# EAGLE library part 24POS-*MM-? (library con-wurth-board-header)
Wurth Elektronik WR-BHD Male Box Headers
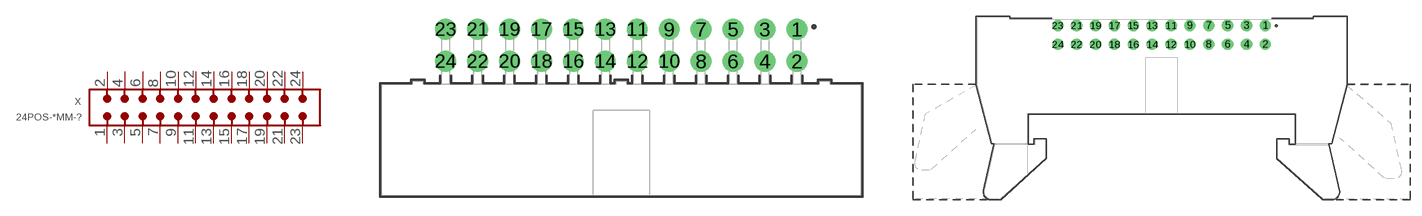
[diagram p12: symbol with the pads of 61202421721; footprints 61202421721, 61202422121]

Designator prefix X

## 24POS-2.54MM-61202421721 (CONTACT-RESISTANCE: 20mOhm; DATASHEET-URL: https://www.we-online.com/redexpert/spec/61202421721?ae; GENDER: Male; IR: 3A; LENGTH: 40.68mm; MOUNT: THT; PACKAGING: Tray; PART-NUMBER: 61202421721; PINS: 24; PITCH: 2.54 mm; TYPE: Angled; VALUE: 61202421721; WORKING-VOLTAGE: 250V(AC))  [61202421721]
1  1  pas
2  2  pas
3  3  pas
4  4  pas
5  5  pas
6  6  pas
7  7  pas
8  8  pas
9  9  pas
10  10  pas
11  11  pas
12  12  pas
13  13  pas
14  14  pas
15  15  pas
16  16  pas
17  17  pas
18  18  pas
19  19  pas
20  20  pas
21  21  pas
22  22  pas
23  23  pas
24  24  pas

## 24POS-2.54MM-61202422121 (CONTACT-RESISTANCE: 20mOhm; DATASHEET-URL: https://www.we-online.com/redexpert/spec/61202422121?ae; GENDER: Male; IR: 3A; LENGTH: 49.98mm; MOUNT: THT; PACKAGING: Tray; PART-NUMBER: 61202422121; PINS: 24; PITCH: 2.54 mm; TYPE: Angled; VALUE: 61202422121; WORKING-VOLTAGE: 250V(AC))  [61202422121]
Pads as for 61202421721

## 24POS-2.54MM-61202421621 (CONTACT-RESISTANCE: 20mOhm; DATASHEET-URL: https://www.we-online.com/redexpert/spec/61202421621?ae; GENDER: Male; IR: 3A; LENGTH: 38.14mm; MOUNT: THT; PACKAGING: Tray; PART-NUMBER: 61202421621; PINS: 24; PITCH: 2.54 mm; TYPE: Straight; VALUE: 61202421621; WORKING-VOLTAGE: 250V(AC))  [61202421621]
Pads as for 61202421721

## 24POS-2.00MM-62502421621 (CONTACT-RESISTANCE: 20mOhm; DATASHEET-URL: https://www.we-online.com/redexpert/spec/62502421621?ae; GENDER: Male; IR: 2A; LENGTH: 32.2mm; MOUNT: THT; PACKAGING: Tray; PART-NUMBER: 62502421621; PINS: 24; PITCH: 2.00 mm; TYPE: Straight; VALUE: 62502421621; WORKING-VOLTAGE: 250V(AC))  [62502421621]
Pads as for 61202421721

## 24POS-2.54MM-61202422921 (CONTACT-RESISTANCE: 20mOhm; DATASHEET-URL: https://www.we-online.com/redexpert/spec/61202422921?ae; GENDER: Male; IR: 3A; LENGTH: 49.98mm; MOUNT: THT; PACKAGING: Tray; PART-NUMBER: 61202422921; PINS: 24; PITCH: 2.54 mm; TYPE: Angled; VALUE: 61202422921; WORKING-VOLTAGE: 250V(AC))  [61202422921]
Pads as for 61202421721

## 24POS-2.54MM-61202422021 (CONTACT-RESISTANCE: 20mOhm; DATASHEET-URL: https://www.we-online.com/redexpert/spec/61202422021?ae; GENDER: Male; IR: 3A; LENGTH: 49.98mm; MOUNT: THT; PACKAGING: Tray; PART-NUMBER: 61202422021; PINS: 24; PITCH: 2.54 mm; TYPE: Straight; VALUE: 61202422021; WORKING-VOLTAGE: 250V(AC))  [61202422021]
Pads as for 61202421721

## 24POS-1.27MM-62702421721 (CONTACT-RESISTANCE: 20mOhm; DATASHEET-URL: https://www.we-online.com/redexpert/spec/62702421721?ae; GENDER: Male; IR: 1A; LENGTH: 21.59mm; MOUNT: THT; PART-NUMBER: 62702421721; PINS: 24; PITCH: 1.27 mm; TYPE: Angled; VALUE: 62702421721; WORKING-VOLTAGE: 50V(AC))  [62702421721]
Pads as for 61202421721

## 24POS-2.54MM-61202422821 (CONTACT-RESISTANCE: 20mOhm; DATASHEET-URL: https://www.we-online.com/redexpert/spec/61202422821?ae; GENDER: Male; IR: 3A; LENGTH: 49.98mm; MOUNT: THT; PACKAGING: Tray; PART-NUMBER: 61202422821; PINS: 24; PITCH: 2.54 mm; TYPE: Straight; VALUE: 61202422821; WORKING-VOLTAGE: 250V(AC))  [61202422821]
Pads as for 61202421721

## 24POS-2.54MM-61202420621 (CONTACT-RESISTANCE: 20mOhm; DATASHEET-URL: https://www.we-online.com/redexpert/spec/61202420621?ae; GENDER: Male; IR: 3A; LENGTH: 38.28mm; MOUNT: SMT; PACKAGING: Tube; PART-NUMBER: 61202420621; PINS: 24; PITCH: 2.54 mm; TYPE: Straight; VALUE: 61202420621; WORKING-VOLTAGE: 250V(AC))  [61202420621]
Pads as for 61202421721

## 24POS-1.27MM-62702421621 (CONTACT-RESISTANCE: 20mOhm; DATASHEET-URL: https://www.we-online.com/redexpert/spec/62702421621?ae; GENDER: Male; IR: 1A; LENGTH: 21.59mm; MOUNT: THT; PART-NUMBER: 62702421621; PINS: 24; PITCH: 1.27 mm; TYPE: Straight; VALUE: 62702421621; WORKING-VOLTAGE: 50V(AC))  [62702421621]
Pads as for 61202421721

## 24POS-1.27MM-62702420621 (CONTACT-RESISTANCE: 20mOhm; DATASHEET-URL: https://www.we-online.com/redexpert/spec/62702420621?ae; GENDER: Male; IR: 1A; LENGTH: 21.59mm; MOUNT: SMT; PART-NUMBER: 62702420621; PINS: 24; PITCH: 1.27 mm; TYPE: Straight; VALUE: 62702420621; WORKING-VOLTAGE: 50V(AC))  [62702420621]
Pads as for 61202421721

## 24POS-1.27MM-62732420621 (CONTACT-RESISTANCE: 20mOhm; DATASHEET-URL: https://www.we-online.com/redexpert/spec/62732420621?ae; GENDER: Male; IR: 1A; LENGTH: 21.59mm; MOUNT: SMT; PART-NUMBER: 62732420621; PINS: 24; PITCH: 1.27 mm; TYPE: Straight; VALUE: 62732420621; WORKING-VOLTAGE: 50V(AC))  [62732420621]
Pads as for 61202421721

## 24POS-2.54MM-61232420621 (CONTACT-RESISTANCE: 20mOhm; DATASHEET-URL: https://www.we-online.com/redexpert/spec/61232420621?ae; GENDER: Male; IR: 3A; LENGTH: 38.1mm; MOUNT: SMT; PACKAGING: Tape and Reel with Cap; PART-NUMBER: 61232420621; PINS: 24; PITCH: 2.54 mm; TYPE: Straight; VALUE: 612324620621; WORKING-VOLTAGE: 250V(AC))  [61232420621]
Pads as for 61202421721

## Footprint 61202421721 (pad centres in mm)
WR-BHD 2.54 mm Male Angled Box Header,24 Pins
drill 1.1: 1 13.97,8.805; 2 13.97,6.265; 3 11.43,8.805; 4 11.43,6.265; 5 8.89,8.805; 6 8.89,6.265; 7 6.35,8.805; 8 6.35,6.265; 9 3.81,8.805; 10 3.81,6.265; 11 1.27,8.805; 12 1.27,6.265; 13 -1.27,8.805; 14 -1.27,6.265; 15 -3.81,8.805; 16 -3.81,6.265; 17 -6.35,8.805; 18 -6.35,6.265; 19 -8.89,8.805; 20 -8.89,6.265; 21 -11.43,8.805; 22 -11.43,6.265; 23 -13.97,8.805; 24 -13.97,6.265

## Footprint 61202422121 (pad centres in mm)
WR-BHD 2.54 mm Male Angled Box Header with short lever,24 Pins
drill 1.02: 1 13.97,7.36; 2 13.97,4.82; 3 11.43,7.36; 4 11.43,4.82; 5 8.89,7.36; 6 8.89,4.82; 7 6.35,7.36; 8 6.35,4.82; 9 3.81,7.36; 10 3.81,4.82; 11 1.27,7.36; 12 1.27,4.82; 13 -1.27,7.36; 14 -1.27,4.82; 15 -3.81,7.36; 16 -3.81,4.82; 17 -6.35,7.36; 18 -6.35,4.82; 19 -8.89,7.36; 20 -8.89,4.82; 21 -11.43,7.36; 22 -11.43,4.82; 23 -13.97,7.36; 24 -13.97,4.82

## Footprint 61202421621 (pad centres in mm)
WR-BHD 2.54 mm Male Box Header, 24 Pins
drill 1.1: 1 -13.97,-1.27; 2 -13.97,1.27; 3 -11.43,-1.27; 4 -11.43,1.27; 5 -8.89,-1.27; 6 -8.89,1.27; 7 -6.35,-1.27; 8 -6.35,1.27; 9 -3.81,-1.27; 10 -3.81,1.27; 11 -1.27,-1.27; 12 -1.27,1.27; 13 1.27,-1.27; 14 1.27,1.27; 15 3.81,-1.27; 16 3.81,1.27; 17 6.35,-1.27; 18 6.35,1.27; 19 8.89,-1.27; 20 8.89,1.27; 21 11.43,-1.27; 22 11.43,1.27; 23 13.97,-1.27; 24 13.97,1.27

## Footprint 62502421621 (pad centres in mm)
WR-BHD 2.00 mm Male Box Headerr, 24Pins;
drill 0.8: 1 -11,-1; 2 -11,1; 3 -9,-1; 4 -9,1; 5 -7,-1; 6 -7,1; 7 -5,-1; 8 -5,1; 9 -3,-1; 10 -3,1; 11 -1,-1; 12 -1,1; 13 1,-1; 14 1,1; 15 3,-1; 16 3,1; 17 5,-1; 18 5,1; 19 7,-1; 20 7,1; 21 9,-1; 22 9,1; 23 11,-1; 24 11,1

## Footprint 61202422921 (pad centres in mm)
WR-BHD 2.54 mm Male Angled Box Header with long lever, 24 Pins
drill 1.02: 1 13.97,7.36; 2 13.97,4.82; 3 11.43,7.36; 4 11.43,4.82; 5 8.89,7.36; 6 8.89,4.82; 7 6.35,7.36; 8 6.35,4.82; 9 3.81,7.36; 10 3.81,4.82; 11 1.27,7.36; 12 1.27,4.82; 13 -1.27,7.36; 14 -1.27,4.82; 15 -3.81,7.36; 16 -3.81,4.82; 17 -6.35,7.36; 18 -6.35,4.82; 19 -8.89,7.36; 20 -8.89,4.82; 21 -11.43,7.36; 22 -11.43,4.82; 23 -13.97,7.36; 24 -13.97,4.82

## Footprint 61202422021 (pad centres in mm)
WR-BHD 2.54 mm Male Box Header with short lever, 24 Pins
drill 1.02: 1 -13.97,-1.27; 2 -13.97,1.27; 3 -11.43,-1.27; 4 -11.43,1.27; 5 -8.89,-1.27; 6 -8.89,1.27; 7 -6.35,-1.27; 8 -6.35,1.27; 9 -3.81,-1.27; 10 -3.81,1.27; 11 -1.27,-1.27; 12 -1.27,1.27; 13 1.27,-1.27; 14 1.27,1.27; 15 3.81,-1.27; 16 3.81,1.27; 17 6.35,-1.27; 18 6.35,1.27; 19 8.89,-1.27; 20 8.89,1.27; 21 11.43,-1.27; 22 11.43,1.27; 23 13.97,-1.27; 24 13.97,1.27

## Footprint 62702421721 (pad centres in mm)
WR-BHD 1,27mm Male THT Box Header Right angle, 24Pins
drill 0.7 pad 1.05: 1 6.985,4.72; 2 6.985,3.45; 3 5.715,4.72; 4 5.715,3.45; 5 4.445,4.72; 6 4.445,3.45; 7 3.175,4.72; 8 3.175,3.45; 9 1.905,4.72; 10 1.905,3.45; 11 0.635,4.72; 12 0.635,3.45; 13 -0.635,4.72; 14 -0.635,3.45; 15 -1.905,4.72; 16 -1.905,3.45; 17 -3.175,4.72; 18 -3.175,3.45; 19 -4.445,4.72; 20 -4.445,3.45; 21 -5.715,4.72; 22 -5.715,3.45; 23 -6.985,4.72; 24 -6.985,3.45

## Footprint 61202422821 (pad centres in mm)
WR-BHD 2.54 mm Male Box Header with long lever,24 Pins
drill 1.02: 1 -13.97,-1.27; 2 -13.97,1.27; 3 -11.43,-1.27; 4 -11.43,1.27; 5 -8.89,-1.27; 6 -8.89,1.27; 7 -6.35,-1.27; 8 -6.35,1.27; 9 -3.81,-1.27; 10 -3.81,1.27; 11 -1.27,-1.27; 12 -1.27,1.27; 13 1.27,-1.27; 14 1.27,1.27; 15 3.81,-1.27; 16 3.81,1.27; 17 6.35,-1.27; 18 6.35,1.27; 19 8.89,-1.27; 20 8.89,1.27; 21 11.43,-1.27; 22 11.43,1.27; 23 13.97,-1.27; 24 13.97,1.27

## Footprint 61202420621 (pad centres in mm)
WR-BHD 2.54 mm Male SMT Box Header, 24 pins
smd 1 x 3.75: 1 -13.97,-3.375; 2 -13.97,3.375; 3 -11.43,-3.375; 4 -11.43,3.375; 5 -8.89,-3.375; 6 -8.89,3.375; 7 -6.35,-3.375; 8 -6.35,3.375; 9 -3.81,-3.375; 10 -3.81,3.375; 11 -1.27,-3.375; 12 -1.27,3.375; 13 1.27,-3.375; 14 1.27,3.375; 15 3.81,-3.375; 16 3.81,3.375; 17 6.35,-3.375; 18 6.35,3.375; 19 8.89,-3.375; 20 8.89,3.375; 21 11.43,-3.375; 22 11.43,3.375; 23 13.97,-3.375; 24 13.97,3.375

## Footprint 62702421621 (pad centres in mm)
WR-BHD 1.27mm Male THT Box Header Straight, 24Pins
drill 0.7 pad 1.05: 1 -6.985,-0.635; 2 -6.985,0.635; 3 -5.715,-0.635; 4 -5.715,0.635; 5 -4.445,-0.635; 6 -4.445,0.635; 7 -3.175,-0.635; 8 -3.175,0.635; 9 -1.905,-0.635; 10 -1.905,0.635; 11 -0.635,-0.635; 12 -0.635,0.635; 13 0.635,-0.635; 14 0.635,0.635; 15 1.905,-0.635; 16 1.905,0.635; 17 3.175,-0.635; 18 3.175,0.635; 19 4.445,-0.635; 20 4.445,0.635; 21 5.715,-0.635; 22 5.715,0.635; 23 6.985,-0.635; 24 6.985,0.635

## Footprint 62702420621 (pad centres in mm)
WR-BHD 1.27 mm Male SMT Box Header Pitch: 1.27mm, 24pins, SMT
smd 0.65 x 2.76: 1 -6.985,-2.02; 2 -6.985,2.02; 3 -5.715,-2.02; 4 -5.715,2.02; 5 -4.445,-2.02; 6 -4.445,2.02; 7 -3.175,-2.02; 8 -3.175,2.02; 9 -1.905,-2.02; 10 -1.905,2.02; 11 -0.635,-2.02; 12 -0.635,2.02; 13 0.635,-2.02; 14 0.635,2.02; 15 1.905,-2.02; 16 1.905,2.02; 17 3.175,-2.02; 18 3.175,2.02; 19 4.445,-2.02; 20 4.445,2.02; 21 5.715,-2.02; 22 5.715,2.02; 23 6.985,-2.02; 24 6.985,2.02

## Footprint 62732420621 (pad centres in mm)
WR-BHD 1.27 mm Male SMT Box Header Pitch: 1.27mm, 24pins, SMT
smd 0.65 x 2.76: 1 -6.985,-2.02; 2 -6.985,2.02; 3 -5.715,-2.02; 4 -5.715,2.02; 5 -4.445,-2.02; 6 -4.445,2.02; 7 -3.175,-2.02; 8 -3.175,2.02; 9 -1.905,-2.02; 10 -1.905,2.02; 11 -0.635,-2.02; 12 -0.635,2.02; 13 0.635,-2.02; 14 0.635,2.02; 15 1.905,-2.02; 16 1.905,2.02; 17 3.175,-2.02; 18 3.175,2.02; 19 4.445,-2.02; 20 4.445,2.02; 21 5.715,-2.02; 22 5.715,2.02; 23 6.985,-2.02; 24 6.985,2.02

## Footprint 61232420621 (pad centres in mm)
WR-BHD 2.54 mm Male SMT Box Header 2.54 mm, SMT, 24Pins
smd 1.2 x 4.75: 1 -13.97,-2.875; 2 -13.97,2.875; 3 -11.43,-2.875; 4 -11.43,2.875; 5 -8.89,-2.875; 6 -8.89,2.875; 7 -6.35,-2.875; 8 -6.35,2.875; 9 -3.81,-2.875; 10 -3.81,2.875; 11 -1.27,-2.875; 12 -1.27,2.875; 13 1.27,-2.875; 14 1.27,2.875; 15 3.81,-2.875; 16 3.81,2.875; 17 6.35,-2.875; 18 6.35,2.875; 19 8.89,-2.875; 20 8.89,2.875; 21 11.43,-2.875; 22 11.43,2.875; 23 13.97,-2.875; 24 13.97,2.875